# EAGLE library part MCP6022-I/SN (library GueLogics)
IC OPAMP 2.5V DUAL R-R
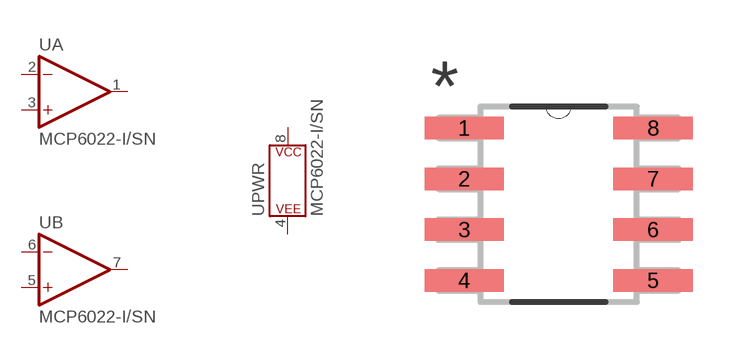
[diagram p0: symbol with the pads of SOIC08; footprint SOIC08]

Designator prefix -; gates A=OP-AMP B=OP-AMP PWR=PWR

## MCP6022-I/SN  [SOIC08]
1  A:OUT  out
2  A:-IN  in
3  A:+IN  in
4  PWR:P$V-
5  B:+IN  in
6  B:-IN  in
7  B:OUT  out
8  PWR:P$V+

## Footprint SOIC08 (pad centres in mm)
smd 1.981 x 0.559: 1 -2.362,1.905; 2 -2.362,0.635; 3 -2.362,-0.635; 4 -2.362,-1.905; 5 2.362,-1.905; 6 2.362,-0.635; 7 2.362,0.635; 8 2.362,1.905